# EAGLE library part CON_ISP_AVR_6 (library mylib_20130829)
ISP Pinheader : for AVR (AVRISP Mk II)
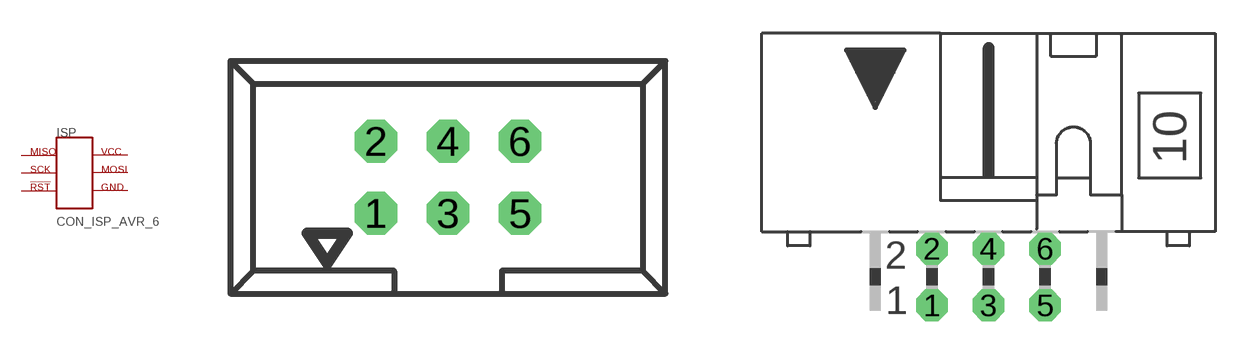
[diagram p51: symbol with the pads of CON_MIL_6; footprints CON_MIL_6, CON_MIL_6ISP]

Designator prefix ISP

## CON_ISP_AVR_6  [CON_MIL_6]
1  MISO
2  VCC
3  SCK
4  MOSI
5  RESET
6  GND

## CON_ISP_AVR_6_L  [CON_MIL_6ISP]
Pads as for CON_MIL_6

## Footprint CON_MIL_6 (pad centres in mm)
drill 1 octagon: 1 -2.54,-1.27; 2 -2.54,1.27; 3 0,-1.27; 4 0,1.27; 5 2.54,-1.27; 6 2.54,1.27

## Footprint CON_MIL_6ISP (pad centres in mm)
drill 0.914 octagon: 1 -2.54,-1.27; 2 -2.54,1.27; 3 0,-1.27; 4 0,1.27; 5 2.54,-1.27; 6 2.54,1.27